# EAGLE library part IC_SN65HVD235 (library 0kaz)
+3.3V CAN Transceiver with Autobaud (listen only) from TI
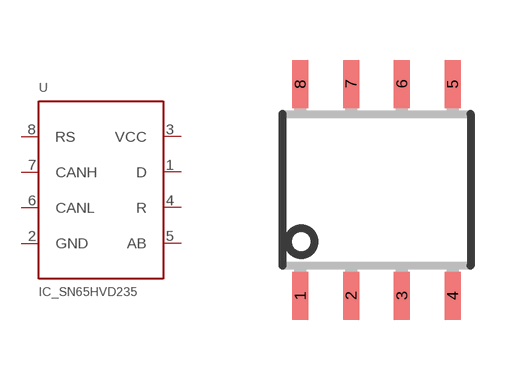
[diagram p3: symbol with the pads of DR-PDSO-G8; footprint DR-PDSO-G8]

Designator prefix -

## IC_SN65HVD235  [DR-PDSO-G8]
1  D
2  GND
3  VCC
4  R
5  AB
6  CANL
7  CANH
8  RS

## Footprint DR-PDSO-G8 (pad centres in mm)
PLASTIC SMALL-OUTLINE PACKAGE SO 14 JEDEC MS-012, D Type Source: www.ti.com/.. slvs087l.pdf
smd 0.4 x 1.2: 1 -1.905,-2.65; 2 -0.635,-2.65; 3 0.635,-2.65; 4 1.905,-2.65; 5 1.905,2.65; 6 0.635,2.65; 7 -0.635,2.65; 8 -1.905,2.65